# Altium footprint library CAN-USB-Converter.PcbLib: 8 footprints
Each footprint in its own frame and in the unit in brackets; x right, y up, seen from the top. Pads: shape width x height; smd on the part's side, far side on the other; paste and mask are expansions set on the pad; w line width, h text height; cw(c..) or ccw(c..) is an arc to the next point about the centre after c.
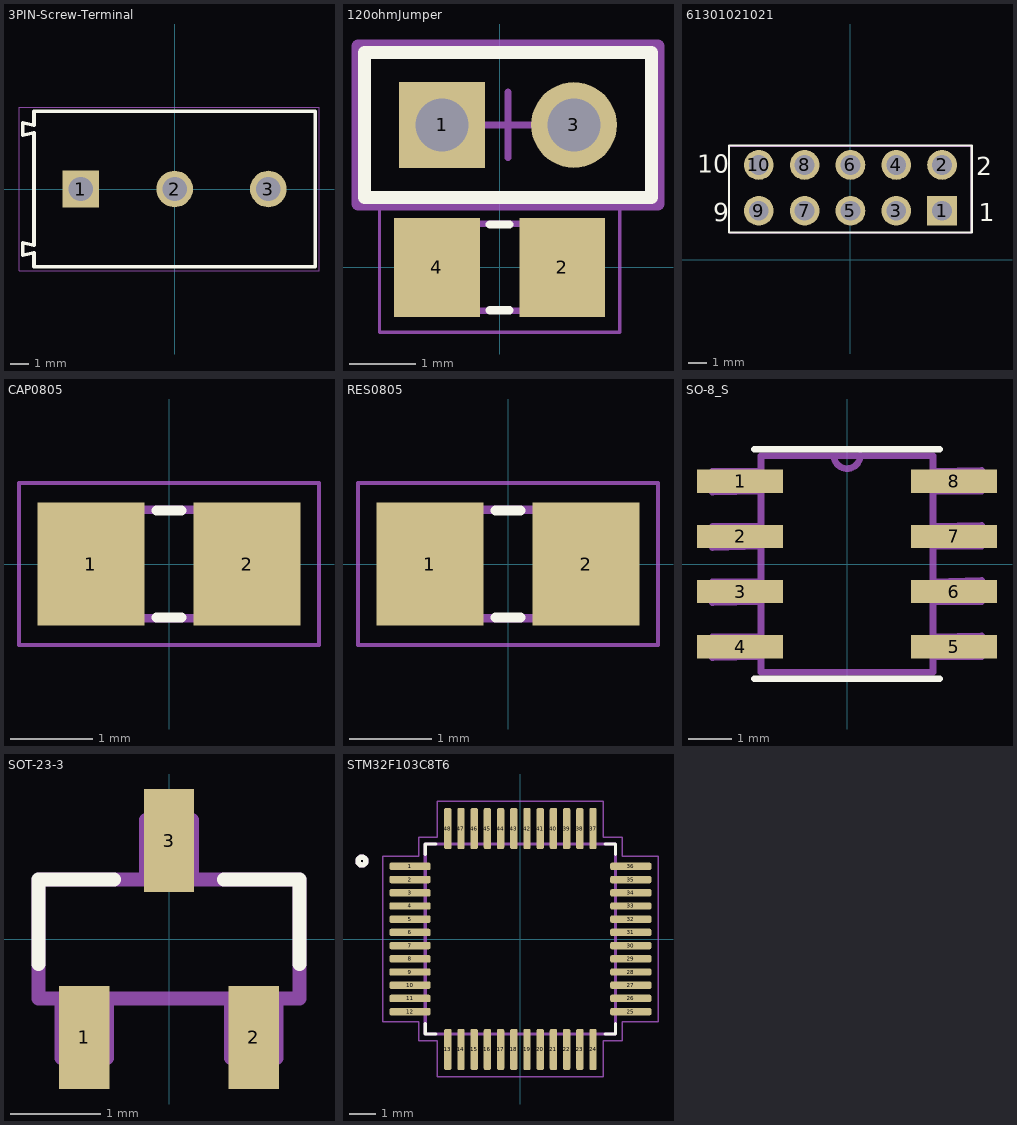
[diagram p0: the footprints below, top view; thin cyan lines are the x and y axes]

## 3PIN-Screw-Terminal [mm] "5,00mm - modular - green - Horizontal entry with rising cage clamp -  10,0mm height - 03p"
height 10
pads (3):
  rect 1.95x1.95 hole 1.3: 1(-5,0)
  round 1.95 hole 1.3: 2(0,0) 3(5,0)
Top Overlay:
  lines w0.2: -8.1,-3.525 -7.5,-3.4 -7.5,-4.15 7.5,-4.15 7.5,4.15 -7.5,4.15 -7.5,3.4 -8.1,3.525 -8.1,2.875 -7.5,3 -7.5,-3 -8.1,-2.875 -8.1,-3.525
Mechanical 13:
  lines w0.1: -8.1,-3.525 -8.1,-2.875 -7.5,-3 -7.5,3 -8.1,2.875 -8.1,3.525 -7.5,3.4 -7.5,4.15 7.5,4.15 7.5,-4.15 -7.5,-4.15 -7.5,-3.4 -8.1,-3.525
Mechanical 15:
  lines w0.05: -0.5,0 0.5,0 ; 0,-0.5 0,0.5 ; -8.3,-4.35 -8.3,4.35 7.7,4.35 7.7,-4.35 -8.3,-4.35
3D body "691213710003.stp": height 10.05, standoff -3.75, extent -8.1,-4.15 7.5,4.15

## 120ohmJumper [mm]
pads (4):
  rect 1.3x1.3 hole 0.8 paste-1000 mask+0: 1(-0.873,2.159)
  rect 1.3x1.5 smd: 2(0.95,0) 4(-0.95,0)
  round 1.3 hole 0.8 paste-1000 mask+0: 3(1.127,2.159)
Top Overlay:
  lines w0.127: -0.15,-0.65 0.15,-0.65 ; -0.15,0.65 0.15,0.65
  lines w0.2: -2.048,1.059 2.302,1.059 2.302,3.259 -2.048,3.259 -2.048,1.059
Mechanical 4:
  region: -1.092,0.726 -0.342,0.726 -0.342,-0.724 -1.092,-0.724
  region: 0.356,0.726 1.106,0.726 1.106,-0.724 0.356,-0.724
  region: -1.092,0.726 -0.342,0.726 -0.342,-0.724 -1.092,-0.724
  region: 0.356,0.726 1.106,0.726 1.106,-0.724 0.356,-0.724
  lines w0.102: -0.381,0.66 0.381,0.66 -0.381,0.66 ; -0.356,-0.66 0.381,-0.66 -0.356,-0.66
Mechanical 5:
  lines w0.2: -2.148,0.959 2.402,0.959 2.402,3.359 -2.148,3.359 -2.148,0.959
Mechanical 13:
  lines w0.2: -2.048,1.059 2.302,1.059 2.302,3.259 -2.048,3.259 -2.048,1.059
Mechanical 15:
  lines w0.2: -2.148,0.959 2.402,0.959 2.402,3.359 -2.148,3.359 -2.148,0.959
Mechanical 16:
  lines w0.051: -1.823,-0.983 1.823,-0.983 1.823,0.983 -1.823,0.983 -1.823,-0.983
  lines w0.1: -0.373,2.159 0.627,2.159 ; 0.127,1.659 0.127,2.659
3D body "res_0805.stp": height 0.65, standoff 0, extent -1,-0.6 1,0.6
3D body "Conn_Harwin_M22-2510205_eec.STEP": height 0.25, standoff 0, extent -2.148,0.959 2.402,3.359

## 61301021021 [mm] "Pin Header, pitch 2.54 mm, THT, Angled, dual row, 10p"
height 5.08
pads (10):
  rect 1.65x1.65 hole 1.1: 1(5.08,2.73)
  round 1.65 hole 1.1: 2(5.08,5.27) 3(2.54,2.73) 4(2.54,5.27) 5(0,2.73) 6(0,5.27) 7(-2.54,2.73) 8(-2.54,5.27) 9(-5.08,2.73) 10(-5.08,5.27)
Top Overlay:
  lines w0.127: -6.731,1.524 6.731,1.524 6.731,6.35 -6.731,6.35 -6.731,1.524
  text "2" at 6.985,4.699 h1.02
  text "1" at 7.112,2.159 h1.02
  text "9" at -7.62,2.159 h1.02
  text "10" at -8.509,4.826 h1.02
Bottom Overlay:
  lines w0.127: -6.731,1.524 6.731,1.524 6.731,6.35 -6.731,6.35 -6.731,1.524
Mechanical 15:
  lines w0.05: -6.7,1.524 6.7,1.524 6.7,6.295 -6.7,6.295 -6.7,1.524
3D body "2x5 Male Pin Header.STEP": height 10.01, standoff -3.53, extent -6.272,1.524 6.272,6.524

## CAP0805 [mm]
pads (2):
  rect 1.3x1.5 smd: 1(-0.95,0) 2(0.95,0)
Top Overlay:
  lines w0.127: -0.15,-0.65 0.15,-0.65 ; -0.15,0.65 0.15,0.65
Mechanical 4:
  region: -1.092,0.726 -0.342,0.726 -0.342,-0.724 -1.092,-0.724
  region: 0.356,0.726 1.106,0.726 1.106,-0.724 0.356,-0.724
  region: -1.092,0.726 -0.342,0.726 -0.342,-0.724 -1.092,-0.724
  region: 0.356,0.726 1.106,0.726 1.106,-0.724 0.356,-0.724
  lines w0.102: -0.381,0.66 0.381,0.66 -0.381,0.66 ; -0.356,-0.66 0.381,-0.66 -0.356,-0.66
Mechanical 16:
  lines w0.051: -1.823,-0.983 1.823,-0.983 1.823,0.983 -1.823,0.983 -1.823,-0.983
3D body "70611053.stp": height 0.96, standoff -0.04, extent -1.1,-0.775 1.2,0.775

## RES0805 [mm]
pads (2):
  rect 1.3x1.5 smd: 1(-0.95,0) 2(0.95,0)
Top Overlay:
  lines w0.127: -0.15,-0.65 0.15,-0.65 ; -0.15,0.65 0.15,0.65
Mechanical 4:
  region: 0.356,0.726 1.106,0.726 1.106,-0.724 0.356,-0.724
  region: -1.092,0.726 -0.342,0.726 -0.342,-0.724 -1.092,-0.724
  region: 0.356,0.726 1.106,0.726 1.106,-0.724 0.356,-0.724
  region: -1.092,0.726 -0.342,0.726 -0.342,-0.724 -1.092,-0.724
  lines w0.102: -0.381,0.66 0.381,0.66 -0.381,0.66 ; -0.356,-0.66 0.381,-0.66 -0.356,-0.66
Mechanical 16:
  lines w0.051: -1.823,-0.983 -1.823,0.983 1.823,0.983 1.823,-0.983 -1.823,-0.983
3D body "res_0805.stp": height 0.65, standoff 0, extent -1,-0.6 1,0.6

## SO-8_S [mil]
pads (8):
  rect 78x21 smd: 1(-97,75) 2(-97,25) 3(-97,-25) 4(-97,-75) 5(97,-75) 6(97,-25) 7(97,25) 8(97,75)
Top Overlay:
  lines w6: -84,-104 84,-104 ; -84,104 84,104
Mechanical 13:
  lines w6: -12,98.08 ccw(c0,98.5) 12,98.92 ; -122,-85 -122,-66 -78,-66 -78,-84 -122,-85 ; -122,-35 -122,-16 -78,-16 -78,-34 -122,-35 ; -122,15 -122,34 -78,34 -78,16 -122,15 ; -122,65 -122,84 -78,84 -78,66 -122,65 ; -78,-98 78,-98 78,98 -12,98 -78,98 -78,-98 ; 78,-84 78,-66 122,-65 122,-84 78,-84 ; 78,-34 78,-16 122,-15 122,-34 78,-34 ; 78,16 78,34 122,35 122,16 78,16 ; 78,66 78,84 122,85 122,66 78,66
3D body "User Library-so8-3.step": height 66.93, standoff 0, extent -118.1,-96.45 118.11,96.46

## SOT-23-3 [mil]
pads (3):
  rect 22x45 smd: 1(-37,-43) 2(37,-43) 3(0,43)
Top Overlay:
  lines w6: -57,-11 -57,26 -24,26 ; 24,26 57,26 57,-11
Mechanical 13:
  lines w6: -57,-26 -57,26 57,26 57,-26 -57,-26 ; -47,-52 -27,-52 -27,-26 -47,-26 -47,-52 ; -10,26 -10,52 10,52 10,26 -10,26 ; 27,-52 47,-52 47,-26 27,-26 27,-52
3D body "bzx84-a3v3_215.stp": height 38.12, standoff -1.54, extent -57.09,-47.68 57.09,43

## STM32F103C8T6 [mm]
pads (48):
  rrect50% 1.56x0.28 smd: 1(-4.18,2.75) 2(-4.18,2.25) 3(-4.18,1.75) 4(-4.18,1.25) 5(-4.18,0.75) 6(-4.18,0.25) 7(-4.18,-0.25) 8(-4.18,-0.75) 9(-4.18,-1.25) 10(-4.18,-1.75) 11(-4.18,-2.25) 12(-4.18,-2.75) 25(4.18,-2.75) 26(4.18,-2.25) 27(4.18,-1.75) 28(4.18,-1.25) 29(4.18,-0.75) 30(4.18,-0.25) 31(4.18,0.25) 32(4.18,0.75) 33(4.18,1.25) 34(4.18,1.75) 35(4.18,2.25) 36(4.18,2.75)
  rrect50% 0.28x1.56 smd: 13(-2.75,-4.18) 14(-2.25,-4.18) 15(-1.75,-4.18) 16(-1.25,-4.18) 17(-0.75,-4.18) 18(-0.25,-4.18) 19(0.25,-4.18) 20(0.75,-4.18) 21(1.25,-4.18) 22(1.75,-4.18) 23(2.25,-4.18) 24(2.75,-4.18) 37(2.75,4.18) 38(2.25,4.18) 39(1.75,4.18) 40(1.25,4.18) 41(0.75,4.18) 42(0.25,4.18) 43(-0.25,4.18) 44(-0.75,4.18) 45(-1.25,4.18) 46(-1.75,4.18) 47(-2.25,4.18) 48(-2.75,4.18)
Top Overlay:
  circle w0.2: c-6,2.95 r0.15
  lines w0.127: -3.6,-3.21 -3.6,-3.6 -3.21,-3.6 ; -3.6,3.21 -3.6,3.6 -3.21,3.6 ; 3.21,-3.6 3.6,-3.6 3.6,-3.21 ; 3.21,3.6 3.6,3.6 3.6,3.21
Mechanical 13:
  circle w0.2: c-6,2.95 r0.15
  lines w0.127: -3.6,-3.6 -3.6,3.6 3.6,3.6 3.6,-3.6 -3.6,-3.6
Mechanical 15:
  lines w0.05: -5.21,-3.14 -5.21,3.14 -3.85,3.14 -3.85,3.85 -3.14,3.85 -3.14,5.21 3.14,5.21 3.14,3.85 3.85,3.85 3.85,3.14 5.21,3.14 5.21,-3.14 3.85,-3.14 3.85,-3.85 3.14,-3.85 3.14,-5.21 -3.14,-5.21 -3.14,-3.85 -3.85,-3.85 -3.85,-3.14 -5.21,-3.14
3D body "STM32F103C8T6--3DModel-STEP-56544.STEP": height 1.46, standoff -0.14, extent -4.5,-4.5 4.5,4.5